# Altium footprint library EECS430PhasedArray.PcbLib: 55 footprints (part 3 of 4)
Each footprint in its own frame and in the unit in brackets; x right, y up, seen from the top. Pads: shape width x height; smd on the part's side, far side on the other; paste and mask are expansions set on the pad; w line width, h text height; cw(c..) or ccw(c..) is an arc to the next point about the centre after c.
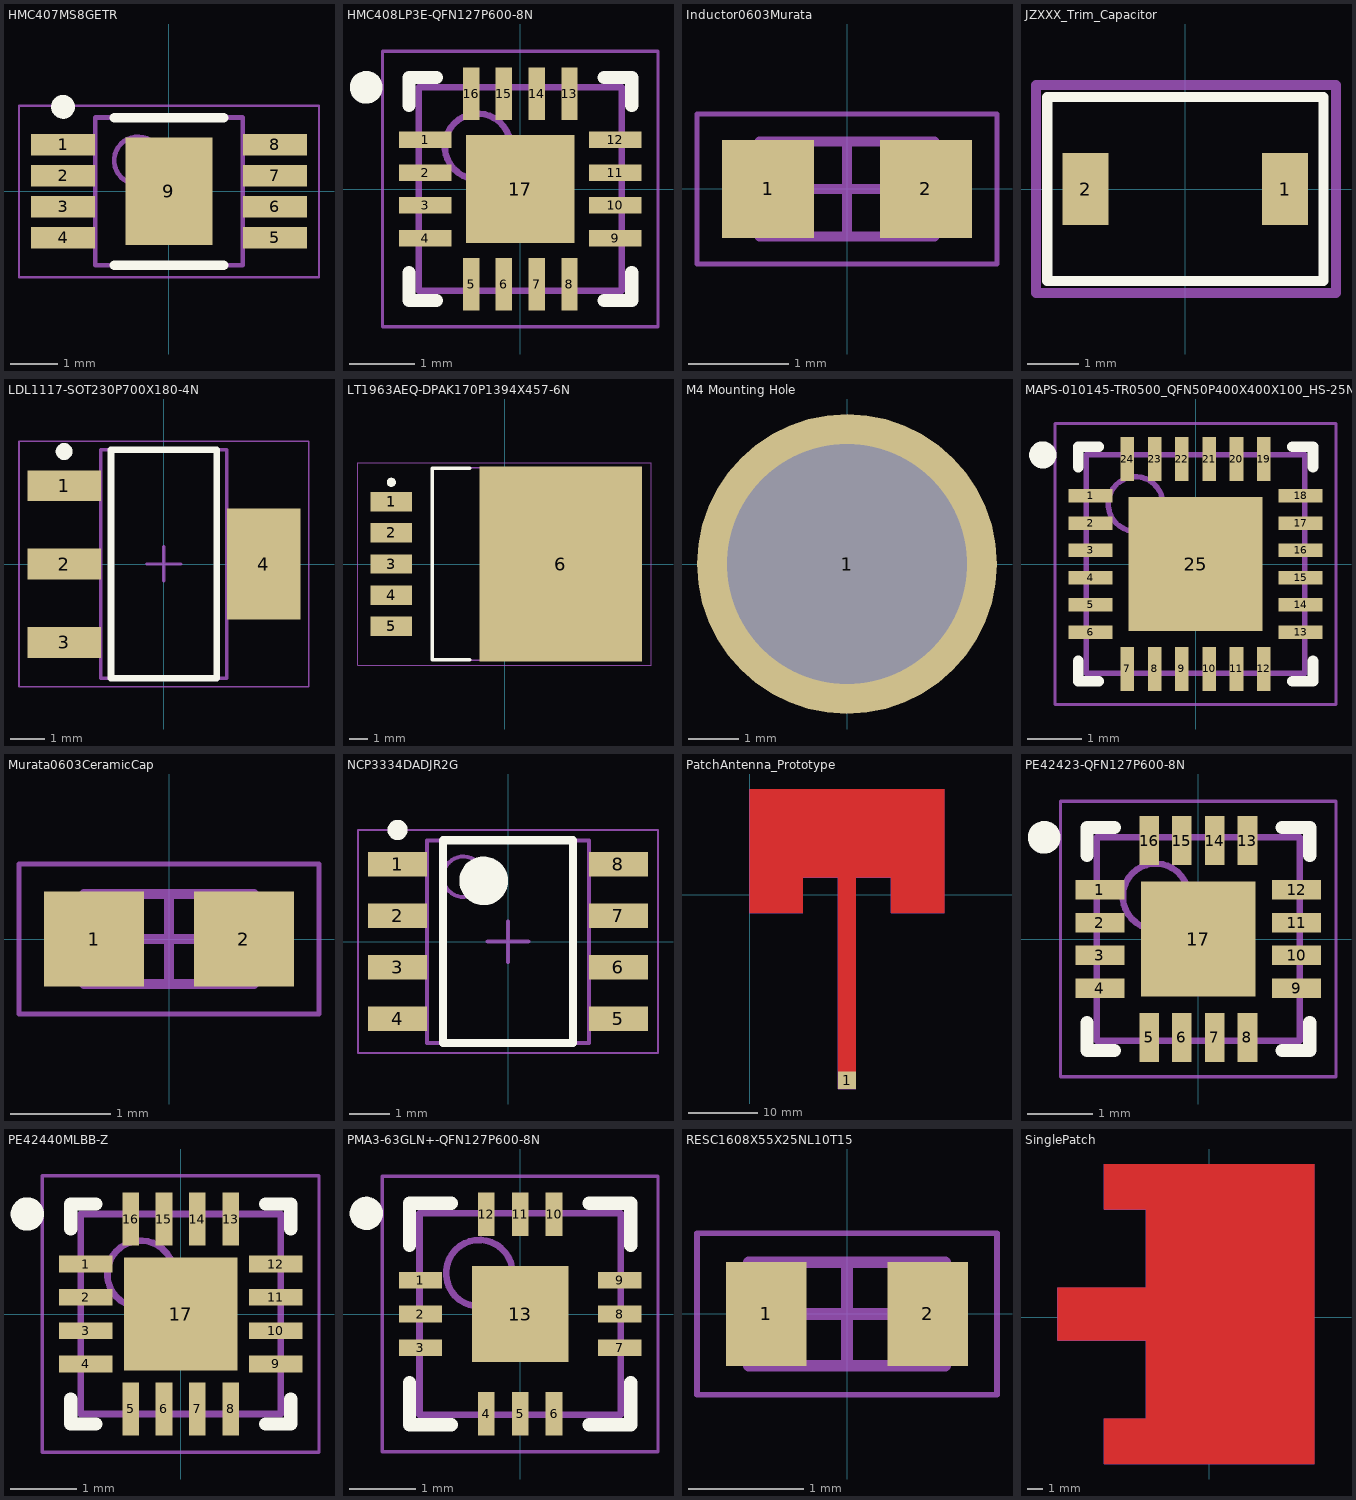
[diagram p2: the footprints below, top view; thin cyan lines are the x and y axes]

## HMC407MS8GETR [mm] "TSOP, 8-Leads, Body 3.00x3.00mm, Pitch 0.65mm, Thermal Pad 2.26x1.83mm, IPC Medium Density"
height 1.1
pads (9):
  rect 1.35x0.45 smd: 1(-2.225,0.975) 2(-2.225,0.325) 3(-2.225,-0.325) 4(-2.225,-0.975) 5(2.225,-0.975) 6(2.225,-0.325) 7(2.225,0.325) 8(2.225,0.975)
  rect 1.83x2.26 smd: 9(0,0)
Top Overlay:
  circle w0.25: c-2.225,1.775 r0.125
  lines w0.2: -1.15,-1.55 1.15,-1.55 ; -1.15,1.55 1.15,1.55
Top Assembly:
  circle w0.1: c-0.65,0.65 r0.5
  lines w0.1: -1.55,-1.55 1.55,-1.55 1.55,1.55 -1.55,1.55 -1.55,-1.55
Top Courtyard:
  lines w0.05: -3.15,-1.8 3.15,-1.8 3.15,1.8 -3.15,1.8 -3.15,-1.8
  lines w0.1: -0.5,0 0.5,0 ; 0,-0.5 0,0.5
3D body "HMC407MS8GETR.step": height 1.1, standoff 0, extent -2.45,-1.55 2.45,1.55

## HMC408LP3E-QFN127P600-8N [mm]
height 1
pads (17):
  rect 0.8x0.25 smd: 1(-1.45,0.75) 2(-1.45,0.25) 3(-1.45,-0.25) 4(-1.45,-0.75) 9(1.45,-0.75) 10(1.45,-0.25) 11(1.45,0.25) 12(1.45,0.75)
  rect 0.25x0.8 smd: 5(-0.75,-1.45) 6(-0.25,-1.45) 7(0.25,-1.45) 8(0.75,-1.45) 13(0.75,1.45) 14(0.25,1.45) 15(-0.25,1.45) 16(-0.75,1.45)
  rect 1.65x1.65 smd: 17(0,0)
Top Overlay:
  circle w0.25: c-2.35,1.55 r0.125
  lines w0.2: -1.7,-1.275 -1.7,-1.7 -1.275,-1.7 ; -1.7,1.275 -1.7,1.7 -1.275,1.7 ; 1.275,-1.7 1.7,-1.7 1.7,-1.275 ; 1.275,1.7 1.7,1.7 1.7,1.275
Top Assembly:
  circle w0.1: c-0.65,0.65 r0.5
  lines w0.1: -1.55,-1.55 -1.55,1.55 1.55,1.55 1.55,-1.55 -1.55,-1.55
Top Courtyard:
  lines w0.05: -2.1,-2.1 -2.1,2.1 2.1,2.1 2.1,-2.1 -2.1,-2.1
  lines w0.1: -0.5,0 0.5,0 ; 0,-0.5 0,0.5
3D body "HMC408LP3E-QFN127P600-8N.step": height 1, standoff 0, extent -1.6,-1.6 1.6,1.6

## Inductor0603Murata [mm]
height 0.95
pads (2):
  rect 0.92x0.98 smd: 1(-0.79,0) 2(0.79,0)
Top Assembly:
  lines w0.1: -0.875,-0.475 -0.875,0.475 0.875,0.475 0.875,-0.475 -0.875,-0.475
Top Courtyard:
  lines w0.05: -1.5,-0.75 -1.5,0.75 1.5,0.75 1.5,-0.75 -1.5,-0.75
  lines w0.1: -0.475,0 0.475,0 ; 0,-0.475 0,0.475
3D body: height 0.95, standoff 0, extent -0.575,-0.475 0.575,0.475
3D body: height 0.95, standoff 0, extent -0.875,-0.475 -0.575,0.475
3D body: height 0.95, standoff 0, extent 0.575,-0.475 0.875,0.475

## JZXXX_Trim_Capacitor [mm] "Trimmer Capacitor Top Surface Mount"
pads (2):
  rect 0.9x1.4 smd: 1(1.95,0) 2(-1.95,0)
Top Overlay:
  lines w0.2: -2.7,-1.8 2.7,-1.8 2.7,1.8 -2.7,1.8 -2.7,-1.8
Top Courtyard:
  lines w0.2: -2.921,-2.032 -2.921,2.032 2.946,2.032 2.946,-2.032 -2.921,-2.032

## LDL1117-SOT230P700X180-4N [mm] "SOT223, 4-Leads, Body 6.50x7.00mm (avg), Pitch 2.30mm, IPC Medium Density"
height 1.8
pads (4):
  rect 2.15x0.9 smd: 1(-2.925,2.3) 2(-2.925,0) 3(-2.925,-2.3)
  rect 2.15x3.25 smd: 4(2.925,0)
Top Overlay:
  circle w0.25: c-2.925,3.3 r0.125
  lines w0.2: -1.55,-3.35 1.55,-3.35 1.55,3.35 -1.55,3.35 -1.55,-3.35
Top Assembly:
  lines w0.1: -1.85,-3.35 1.85,-3.35 1.85,3.35 -1.85,3.35 -1.85,-3.35
Top Courtyard:
  lines w0.05: -4.25,-3.6 4.25,-3.6 4.25,3.6 -4.25,3.6 -4.25,-3.6
  lines w0.1: -0.5,0 0.5,0 ; 0,-0.5 0,0.5
3D body "LDL1117-SOT230P700X180-4N.step": height 1.8, standoff 0, extent -3.5,-3.35 3.5,3.35

## LT1963AEQ-DPAK170P1394X457-6N [mil] "D2-PAK, 6-Pads, Body 7.80x8.63mm (max), IPC Medium Density"
height 180.31
pads (6):
  rect 90x42 smd: 1(-244,134) 2(-244,67) 3(-244,0) 4(-244,-67) 5(-244,-134)
  rect 350x420 smd: 6(121,0)
Top Overlay:
  circle w9.84: c-244.09,176.18 r4.92
  lines w7.87: -74.8,-206.69 -155.51,-206.69 -155.51,206.69 -74.8,206.69
Top Assembly:
  lines w3.94: -155.51,-207.68 214.57,-207.68 214.57,207.68 -155.51,207.68 -155.51,-207.68
Top Courtyard:
  lines w1.97: -315.94,-218.5 315.94,-218.5 315.94,218.5 -315.94,218.5 -315.94,-218.5
  lines w3.94: -19.69,0 19.68,0 ; 0,-19.68 0,19.69
3D body "LT1963AEQ-DPAK170P1394X457-6N.step": height 180, standoff 0, extent -263.09,-207.68 285.91,207.68

## M4 Mounting Hole [mm]
pads (1):
  round 6 hole 4.8: 1(0,0)

## MAPS-010145-TR0500_QFN50P400X400X100_HS-25N [mm] "QFN, 24-Leads, Body 4.00x4.00mm, Pitch 0.50mm, Thermal Pad 2.45x2.45mm, IPC Medium Density"
height 1
pads (25):
  rect 0.8x0.25 smd: 1(-1.925,1.25) 2(-1.925,0.75) 3(-1.925,0.25) 4(-1.925,-0.25) 5(-1.925,-0.75) 6(-1.925,-1.25) 13(1.925,-1.25) 14(1.925,-0.75) 15(1.925,-0.25) 16(1.925,0.25) 17(1.925,0.75) 18(1.925,1.25)
  rect 0.25x0.8 smd: 7(-1.25,-1.925) 8(-0.75,-1.925) 9(-0.25,-1.925) 10(0.25,-1.925) 11(0.75,-1.925) 12(1.25,-1.925) 19(1.25,1.925) 20(0.75,1.925) 21(0.25,1.925) 22(-0.25,1.925) 23(-0.75,1.925) 24(-1.25,1.925)
  rect 2.45x2.45 smd: 25(0,0)
Top Overlay:
  circle w0.25: c-2.8,2 r0.125
  lines w0.2: -2.15,-1.775 -2.15,-2.15 -1.775,-2.15 ; -2.15,1.775 -2.15,2.15 -1.775,2.15 ; 1.775,-2.15 2.15,-2.15 2.15,-1.775 ; 1.775,2.15 2.15,2.15 2.15,1.775
Top Assembly:
  circle w0.1: c-1.1,1.1 r0.5
  lines w0.1: -2,-2 -2,2 2,2 2,-2 -2,-2
Top Courtyard:
  lines w0.05: -2.575,-2.575 -2.575,2.575 2.575,2.575 2.575,-2.575 -2.575,-2.575
  lines w0.1: -0.5,0 0.5,0 ; 0,-0.5 0,0.5
3D body "MAPS-010145-TR0500_QFN50P400X400X100_HS-25N.step": height 1, standoff 0, extent -2.05,-2.05 2.05,2.05

## Murata0603CeramicCap [mm] "Murata 0603 Ceramic Capacitor Footprint"
height 0.9
pads (2):
  rect 1x0.95 smd: 1(-0.75,0) 2(0.75,0)
Top Assembly:
  lines w0.1: -0.85,-0.45 -0.85,0.45 0.85,0.45 0.85,-0.45 -0.85,-0.45
Top Courtyard:
  lines w0.05: -1.5,-0.75 -1.5,0.75 1.5,0.75 1.5,-0.75 -1.5,-0.75
  lines w0.1: -0.45,0 0.45,0 ; 0,-0.45 0,0.45
3D body "Murata0603CeramicCap.step": height 0.9, standoff 0, extent -0.85,-0.45 0.85,0.45

## NCP3334DADJR2G [mm] "SOIC, 8-Leads, Body 4.90x3.90mm, Pitch 1.27mm, IPC Medium Density"
height 1.75
pads (8):
  rect 1.45x0.6 smd: 1(-2.725,1.905) 2(-2.725,0.635) 3(-2.725,-0.635) 4(-2.725,-1.905) 5(2.725,-1.905) 6(2.725,-0.635) 7(2.725,0.635) 8(2.725,1.905)
Top Overlay:
  circle w0.6: c-0.6,1.5 r0.3
  circle w0.25: c-2.725,2.755 r0.125
  lines w0.2: -1.6,-2.5 1.6,-2.5 1.6,2.5 -1.6,2.5 -1.6,-2.5
Top Assembly:
  circle w0.1: c-1.1,1.6 r0.5
  lines w0.1: -2,-2.5 2,-2.5 2,2.5 -2,2.5 -2,-2.5
Top Courtyard:
  lines w0.05: -3.7,-2.75 3.7,-2.75 3.7,2.75 -3.7,2.75 -3.7,-2.75
  lines w0.1: -0.5,0 0.5,0 ; 0,-0.5 0,0.5
3D body "NCP3334DADJR2G.step": height 1.75, standoff 0, extent -3,-2.5 3,2.5

## PatchAntenna_Prototype [mm] "Prototype copper shape for 5.8GHz patch antenna"
pads (1):
  rect 2.54x2.54 smd: 1(13.97,-26.67)
Top Layer:
  region: 0,-2.54 0,15.24 27.94,15.24 27.94,-2.54 20.32,-2.54 20.32,2.54 15.24,2.54 15.24,-27.94 12.7,-27.94 12.7,2.54 7.62,2.54 7.62,-2.54
Top Courtyard:
  lines w0.1: 0,-2.54 0,15.24 27.94,15.24 27.94,-2.54 20.32,-2.54 20.32,2.54 15.24,2.54 15.24,-27.94 12.7,-27.94 12.7,2.54 7.62,2.54 7.62,-2.54 0,-2.54

## PE42423-QFN127P600-8N [mm]
height 0.9
pads (17):
  rect 0.75x0.3 smd: 1(-1.5,0.75) 2(-1.5,0.25) 3(-1.5,-0.25) 4(-1.5,-0.75) 9(1.5,-0.75) 10(1.5,-0.25) 11(1.5,0.25) 12(1.5,0.75)
  rect 0.3x0.75 smd: 5(-0.75,-1.5) 6(-0.25,-1.5) 7(0.25,-1.5) 8(0.75,-1.5) 13(0.75,1.5) 14(0.25,1.5) 15(-0.25,1.5) 16(-0.75,1.5)
  rect 1.75x1.75 smd: 17(0,0)
Top Overlay:
  circle w0.25: c-2.35,1.55 r0.125
  lines w0.2: -1.7,-1.275 -1.7,-1.7 -1.275,-1.7 ; -1.7,1.275 -1.7,1.7 -1.275,1.7 ; 1.275,-1.7 1.7,-1.7 1.7,-1.275 ; 1.275,1.7 1.7,1.7 1.7,1.275
Top Assembly:
  circle w0.1: c-0.65,0.65 r0.5
  lines w0.1: -1.55,-1.55 1.55,-1.55 1.55,1.55 -1.55,1.55 -1.55,-1.55
Top Courtyard:
  lines w0.05: -2.1,-2.1 2.1,-2.1 2.1,2.1 -2.1,2.1 -2.1,-2.1
  lines w0.1: -0.5,0 0.5,0 ; 0,-0.5 0,0.5
3D body "PE42423-QFN127P600-8N.step": height 0.9, standoff 0, extent -1.6,-1.6 1.6,1.6

## PE42440MLBB-Z [mm] "QFN, 16-Leads, Body 3.00x3.00mm, Pitch 0.50mm, Thermal Pad 1.70x1.70mm, IPC Medium Density"
height 0.8
pads (17):
  rect 0.8x0.25 smd: 1(-1.425,0.75) 2(-1.425,0.25) 3(-1.425,-0.25) 4(-1.425,-0.75) 9(1.425,-0.75) 10(1.425,-0.25) 11(1.425,0.25) 12(1.425,0.75)
  rect 0.25x0.8 smd: 5(-0.75,-1.425) 6(-0.25,-1.425) 7(0.25,-1.425) 8(0.75,-1.425) 13(0.75,1.425) 14(0.25,1.425) 15(-0.25,1.425) 16(-0.75,1.425)
  rect 1.7x1.7 smd: 17(0,0)
Top Overlay:
  circle w0.25: c-2.3,1.5 r0.125
  lines w0.2: -1.65,-1.275 -1.65,-1.65 -1.275,-1.65 ; -1.65,1.275 -1.65,1.65 -1.275,1.65 ; 1.275,-1.65 1.65,-1.65 1.65,-1.275 ; 1.275,1.65 1.65,1.65 1.65,1.275
Top Assembly:
  circle w0.1: c-0.6,0.6 r0.5
  lines w0.1: -1.5,-1.5 -1.5,1.5 1.5,1.5 1.5,-1.5 -1.5,-1.5
Top Courtyard:
  lines w0.05: -2.075,-2.075 -2.075,2.075 2.075,2.075 2.075,-2.075 -2.075,-2.075
  lines w0.1: -0.5,0 0.5,0 ; 0,-0.5 0,0.5
3D body "PE42440MLBB-Z-new.step": height 0.8, standoff 0, extent -1.55,-1.55 1.55,1.55

## PMA3-63GLN+-QFN127P600-8N [mm]
height 0.89
pads (13):
  rect 0.65x0.25 smd: 1(-1.5,0.51) 2(-1.5,0) 3(-1.5,-0.51) 7(1.5,-0.51) 8(1.5,0) 9(1.5,0.51)
  rect 0.25x0.65 smd: 4(-0.51,-1.5) 5(0,-1.5) 6(0.51,-1.5) 10(0.51,1.5) 11(0,1.5) 12(-0.51,1.5)
  rect 1.45x1.45 smd: 13(0,0)
Top Overlay:
  circle w0.25: c-2.315,1.515 r0.125
  lines w0.2: -1.665,-1.035 -1.665,-1.665 -1.035,-1.665 ; -1.665,1.035 -1.665,1.665 -1.035,1.665 ; 1.035,-1.665 1.665,-1.665 1.665,-1.035 ; 1.035,1.665 1.665,1.665 1.665,1.035
Top Assembly:
  circle w0.1: c-0.615,0.615 r0.5
  lines w0.1: -1.515,-1.515 -1.515,1.515 1.515,1.515 1.515,-1.515 -1.515,-1.515
Top Courtyard:
  lines w0.05: -2.075,-2.075 -2.075,2.075 2.075,2.075 2.075,-2.075 -2.075,-2.075
  lines w0.1: -0.5,0 0.5,0 ; 0,-0.5 0,0.5
3D body "PMA3-63GLN+-QFN127P600-8N.step": height 0.89, standoff 0, extent -1.516,-1.516 1.516,1.516

## RESC1608X55X25NL10T15 [mm] "Chip Resistor, 2-Leads, Body 1.70x0.90mm, IPC Medium Density"
height 0.55
pads (2):
  rect 0.7x0.9 smd: 1(-0.7,0) 2(0.7,0)
Top 3D Body:
  lines w0.1: -0.85,-0.45 -0.85,0.45 0.85,0.45 0.85,-0.45 -0.85,-0.45
Top Courtyard:
  lines w0.05: -1.3,-0.7 -1.3,0.7 1.3,0.7 1.3,-0.7 -1.3,-0.7
  lines w0.1: -0.45,0 0.45,0 ; 0,-0.45 0,0.45
3D body: height 0.55, standoff 0, extent -0.6,-0.45 0.6,0.45
3D body: height 0.55, standoff 0, extent -0.85,-0.45 -0.6,0.45
3D body: height 0.55, standoff 0, extent 0.6,-0.45 0.85,0.45

## SinglePatch [mm]
Top Layer:
  region: -6.935,10.105 -6.935,7.135 -4.159,7.135 -4.159,1.948 -10.009,1.948 -10.009,-1.509 -4.159,-1.509 -4.159,-6.695 -6.935,-6.695 -6.935,-9.665 6.917,-9.665 6.917,10.105
Mechanical 4:
  lines w0.013: -10.009,-1.509 -10.009,1.948 -4.159,1.948 -4.159,7.135 -6.935,7.135 -6.935,10.105 6.917,10.105 6.917,-9.665 -6.935,-9.665 -6.935,-6.695 -4.159,-6.695 -4.159,-1.509 -10.009,-1.509